# EAGLE library part MAX4238AUT+T (library SamacSys_Parts)
Ultra-Low Offset/Drift, Low-Noise, Precision SOT23 Amplifiers Source: Datasheet <https://datasheet.lcsc.com/szlcsc/Maxim-Integrated-MAX4238AUT-T_C239900.pdf>
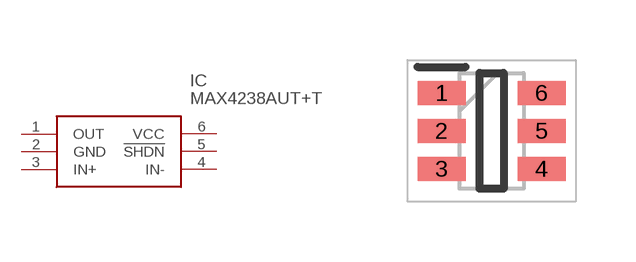
[diagram p6: symbol with the pads of SOT95P280X145-6N; footprint SOT95P280X145-6N]

Designator prefix IC

## MAX4238AUT+T (DESCRIPTION: Ultra-Low Offset/Drift, Low-Noise, Precision SOT23 Amplifiers; HEIGHT: 1.45mm; LCSC_PART_NUMBER: C239900; LCSC_PRICE-STOCK: https://lcsc.com/product-detail/Others_Maxim-Integrated_MAX4238AUT-T_Maxim-Integrated-MAX4238AUT-T_C239900.html; MANUFACTURER_NAME: Maxim Integrated; MANUFACTURER_PART_NUMBER: MAX4238AUT+T)  [SOT95P280X145-6N]
1  OUT  out
2  GND  pwr
3  IN+  in
4  IN-  in
5  !SHDN
6  VCC  pwr

## Footprint SOT95P280X145-6N (pad centres in mm)
DBV (R-PDSO-G6)
smd 1.2 x 0.6: 1 -1.25,0.95; 2 -1.25,0; 3 -1.25,-0.95; 4 1.25,-0.95; 5 1.25,0; 6 1.25,0.95